# Altium footprint library DE-260124.PcbLib: 98 footprints (part 1 of 7)
Each footprint in its own frame and in the unit in brackets; x right, y up, seen from the top. Pads: shape width x height; smd on the part's side, far side on the other; paste and mask are expansions set on the pad; w line width, h text height; cw(c..) or ccw(c..) is an arc to the next point about the centre after c.
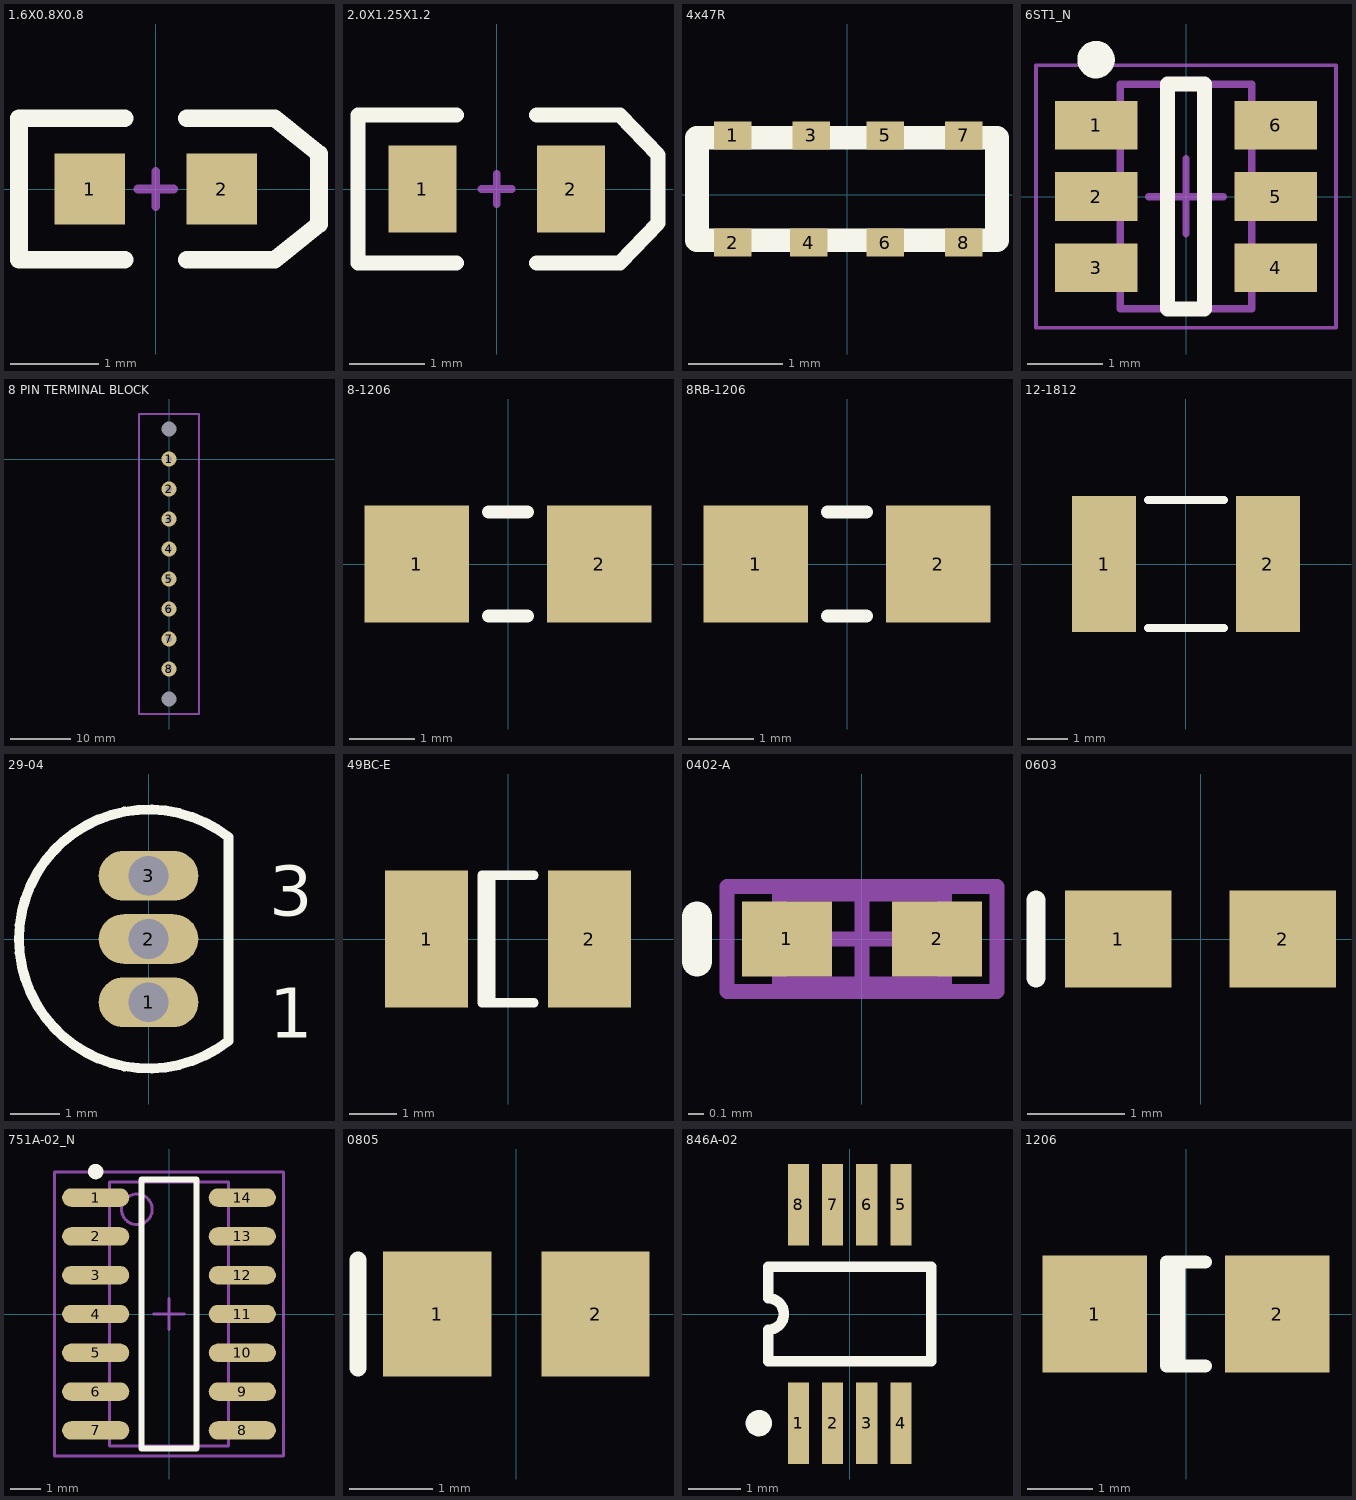
[diagram p0: the footprints below, top view; thin cyan lines are the x and y axes]

## 1.6X0.8X0.8 [mm] "SM LED; 2 Flat Leads"
height 4.83
pads (2):
  rect 0.8x0.8 smd: 1(-0.75,0) 2(0.75,0)
Top Overlay:
  lines w0.2: -0.35,-0.8 -1.55,-0.8 -1.55,0.8 -0.35,0.8 ; 0.35,-0.8 1.35,-0.8 1.85,-0.4 1.85,0.4 1.35,0.8 0.35,0.8
Mechanical 1:
  lines w0.1: -0.2,0 0.2,0 ; 0,-0.2 0,0.2

## 2.0X1.25X1.2 [mm] "SM LED; 2 Flat Leads"
pads (2):
  rect 0.9x1.15 smd: 1(-0.98,0) 2(0.98,0)
Top Overlay:
  lines w0.2: -0.53,-0.975 -1.83,-0.975 -1.83,0.975 -0.53,0.975 ; 0.53,-0.975 1.63,-0.975 2.13,-0.45 2.13,0.45 1.63,0.975 0.53,0.975
Mechanical 1:
  lines w0.1: -0.2,0 0.2,0 ; 0,-0.2 0,0.2

## 4x47R [mm] "SMD RESISTOR 4 x 47R"
height 1
pads (8):
  rect 0.4x0.3 all layers, no hole: 1(-1.219,0.635) 2(-1.219,-0.508) 3(-0.381,0.635) 4(-0.406,-0.508) 5(0.406,0.635) 6(0.406,-0.508) 7(1.245,0.635) 8(1.245,-0.508)
Top Overlay:
  lines w0.254: -1.6,-0.483 1.6,-0.483 1.6,0.61 -1.6,0.61 -1.6,-0.483

## 6ST1_N [mm] "SOT23, 6-Leads, Body 2.9x1.6mm, Pitch 0.95mm, Lead Span 2.8mm, IPC Medium Density"
height 1.45
pads (6):
  rect 1.1x0.65 smd: 1(-1.2,0.95) 2(-1.2,0) 3(-1.2,-0.95) 4(1.2,-0.95) 5(1.2,0) 6(1.2,0.95)
Top Overlay:
  circle w0.25: c-1.2,1.825 r0.125
  lines w0.2: -0.25,-1.5 0.25,-1.5 0.25,1.5 -0.25,1.5 -0.25,-1.5
Mechanical 13:
  lines w0.1: -0.875,-1.5 -0.875,1.5 0.875,1.5 0.875,-1.5 -0.875,-1.5
Mechanical 15:
  lines w0.05: -2,-1.75 -2,1.75 2,1.75 2,-1.75 -2,-1.75
  lines w0.1: -0.5,0 0.5,0 ; 0,-0.5 0,0.5
3D body: height 1.45, standoff 0, extent -0.875,-1.5 0.875,1.5

## 8 PIN TERMINAL BLOCK [mm] "8 pin cable terminal connector"
height 16
pads (10):
  round 2.5 hole 1: 1(0,0) 2(0,-5) 3(0,-10) 4(0,-15) 5(0,-20) 6(0,-25) 7(0,-30) 8(0,-35)
  round 1 hole 2.5: vijak(0,-40) vijak(0,5)
Mechanical 1:
  lines w0.254: -5,-42.5 -5,7.5 5,7.5 5,-42.5 -5,-42.5
3D body: height 16, standoff 1, extent -5,-42.5 5,7.5

## 8-1206 [mm] "Chip Resistor; Body 3.1 x 1.6 mm (LxW typ)"
height 0.7
pads (2):
  rect 1.6x1.8 smd: 1(-1.4,0) 2(1.4,0)
Top Overlay:
  lines w0.2: -0.3,-0.8 0.3,-0.8 ; -0.3,0.8 0.3,0.8

## 8RB-1206 [mm] "Chip Resistor; Body 3.2 x 1.6 mm (LxW typ)"
height 0.7
pads (2):
  rect 1.6x1.8 smd: 1(-1.4,0) 2(1.4,0)
Top Overlay:
  lines w0.2: -0.3,-0.8 0.3,-0.8 ; -0.3,0.8 0.3,0.8

## 12-1812 [mm] "Chip Resistor; Body 4.5 x 3.2 mm (LxW typ)"
height 0.7
pads (2):
  rect 1.6x3.4 smd: 1(-2.05,0) 2(2.05,0)
Top Overlay:
  lines w0.2: -0.95,-1.6 0.95,-1.6 ; -0.95,1.6 0.95,1.6

## 29-04 [mm] "TO, Flat Index; 3 In-Line, Axial Leads; Body Dia. 4.8mm; Leads 0.48 x 0.5 mm (max)"
height 5.33
pads (3):
  oval 2x1 hole 0.8: 1(0,-1.27) 2(0,0) 3(0,1.27)
Top Overlay:
  lines w0.2: 1.601,-2.049 cw(c0,0) 1.601,2.049 ; 1.6,-1.99 1.6,1.99
  text "3" at 2.421,0.467 h1
  text "1" at 2.421,-1.979 h1

## 49BC-E [mm] "Chip Capacitor; Body 3.81 x 2.54 mm (LxW typ)"
height 1.66
pads (2):
  rect 1.75x2.9 smd: 1(-1.725,0) 2(1.725,0)
Top Overlay:
  lines w0.2: -0.36,-1.35 -0.36,1.35 ; 0.55,-1.35 -0.55,-1.35 -0.55,1.35 0.55,1.35

## 0402-A [mm] "Chip Inductor, Body 1.0x0.5mm, IPC High Density"
height 0.55
pads (2):
  rect 0.6x0.5 smd: 1(-0.5,0) 2(0.5,0)
Top Overlay:
  lines w0.2: -1.1,-0.15 -1.1,0.15
Mechanical 13:
  lines w0.1: -0.55,-0.3 0.55,-0.3 0.55,0.3 -0.55,0.3 -0.55,-0.3
Mechanical 15:
  lines w0.1: -0.3,0 0.3,0 ; 0,-0.3 0,0.3 ; -0.9,-0.35 0.9,-0.35 0.9,0.35 -0.9,0.35 -0.9,-0.35
3D body: height 0.55, standoff 0, extent -0.55,-0.3 0.55,0.3

## 0603 [mm] "Chip Capacitor; Body 1.6 x 0.8 mm (LxW typ)"
height 0.87
pads (2):
  rect 1.1x1 smd: 1(-0.85,0) 2(0.85,0)
Top Overlay:
  lines w0.2: -1.7,-0.4 -1.7,0.4

## 751A-02_N [mm] "SOIC, 14-Leads, Body 8.7x3.9mm, Pitch 1.27mm, IPC Medium Density"
height 1.75
pads (14):
  oval 2.2x0.6 smd: 1(-2.4,3.81) 2(-2.4,2.54) 3(-2.4,1.27) 4(-2.4,0) 5(-2.4,-1.27) 6(-2.4,-2.54) 7(-2.4,-3.81) 8(2.4,-3.81) 9(2.4,-2.54) 10(2.4,-1.27) 11(2.4,0) 12(2.4,1.27) 13(2.4,2.54) 14(2.4,3.81)
Top Overlay:
  circle w0.25: c-2.4,4.66 r0.125
  lines w0.2: -0.9,-4.4 0.9,-4.4 0.9,4.4 -0.9,4.4 -0.9,-4.4
Mechanical 13:
  circle w0.1: c-1.05,3.425 r0.5
  lines w0.1: -1.95,-4.325 1.95,-4.325 1.95,4.325 -1.95,4.325 -1.95,-4.325
Mechanical 15:
  lines w0.1: -0.5,0 0.5,0 ; 0,-0.5 0,0.5 ; -3.75,-4.65 3.75,-4.65 3.75,4.65 -3.75,4.65 -3.75,-4.65
3D body: height 1.75, standoff 0, extent -1.95,-4.325 1.95,4.325

## 0805 [mm] "Chip Capacitor; Body 2.0 x 1.2 mm (LxW typ)"
height 1.3
pads (2):
  rect 1.3x1.5 smd: 1(-0.95,0) 2(0.95,0)
Top Overlay:
  lines w0.2: -1.9,-0.65 -1.9,0.65

## 846A-02 [mm] "Shrink Small Outline; 8 Leads; Body Width 3 mm; Pitch 0.65 mm"
height 1.1
pads (8):
  rect 0.4x1.55 smd: 1(-0.975,-2.075) 2(-0.325,-2.075) 3(0.325,-2.075) 4(0.975,-2.075) 5(0.975,2.075) 6(0.325,2.075) 7(-0.325,2.075) 8(-0.975,2.075)
Top Overlay:
  circle w0.25: c-1.725,-2.075 r0.125
  lines w0.2: -1.55,-0.9 1.55,-0.9 1.55,0.9 -1.55,0.9 -1.55,0.3 cw(c-1.55,0) -1.55,-0.3 -1.55,-0.9

## 1206 [mm] "Chip Capacitor; Body 3.2 x 1.6 mm (LxW typ)"
height 1.5
pads (2):
  rect 1.6x1.8 smd: 1(-1.4,0) 2(1.4,0)
Top Overlay:
  lines w0.2: -0.11,-0.8 -0.11,0.8 ; 0.3,-0.8 -0.3,-0.8 -0.3,0.8 0.3,0.8